# EAGLE library part RN-131G (library WiFly)
Roving Netowrks WiFLy GSX Module
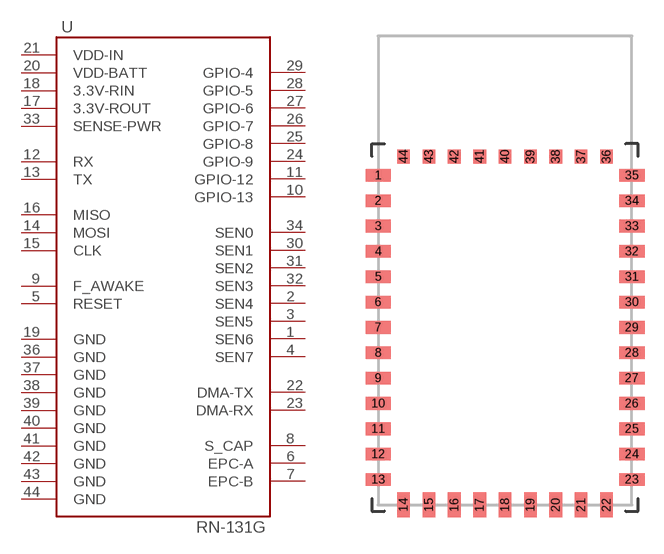
[diagram p0: symbol with the pads of RN-131G; footprint RN-131G]

Designator prefix -

## RN-131G  [RN-131G]
1  SEN6
2  SEN4
3  SEN5
4  SEN7
5  RESET
6  EPC-A
7  EPC-B
8  S_CAP
9  F_AWAKE
10  GPIO-13
11  GPIO-12
12  RX
13  TX
14  MOSI
15  CLK
16  MISO
17  3.3V-ROUT
18  3.3V-RIN
19  GND
20  VDD-BATT
21  VDD-IN
22  DMA-TX
23  DMA-RX
24  GPIO-9
25  GPIO-8
26  GPIO-7
27  GPIO-6
28  GPIO-5
29  GPIO-4
30  SEN1
31  SEN2
32  SEN3
33  SENSE-PWR
34  SEN0
36  GND
37  GND
38  GND
39  GND
40  GND
41  GND
42  GND
43  GND
44  GND

## Footprint RN-131G (pad centres in mm)
smd 2 x 1: 1 -10,11; 2 -10,9; 3 -10,7; 4 -10,5; 5 -10,3; 6 -10,1; 7 -10,-1; 8 -10,-3; 9 -10,-5; 10 -10,-7; 11 -10,-9; 12 -10,-11; 13 -10,-13; 23 10,-13; 24 10,-11; 25 10,-9; 26 10,-7; 27 10,-5; 28 10,-3; 29 10,-1; 30 10,1; 31 10,3; 32 10,5; 33 10,7; 34 10,9; 35 10,11
smd 1 x 2: 14 -8,-15; 15 -6,-15; 16 -4,-15; 17 -2,-15; 18 0,-15; 19 2,-15; 20 4,-15; 21 6,-15; 22 8,-15
smd 1 x 1.11: 36 8,12.492; 37 6,12.492; 38 4,12.492; 39 2,12.492; 40 0,12.492; 41 -2,12.492; 42 -4,12.492; 43 -6,12.492; 44 -8,12.492